# Altium footprint library PcbLib1.PcbLib: 31 footprints (part 1 of 2)
Each footprint in its own frame and in the unit in brackets; x right, y up, seen from the top. Pads: shape width x height; smd on the part's side, far side on the other; paste and mask are expansions set on the pad; w line width, h text height; cw(c..) or ccw(c..) is an arc to the next point about the centre after c.
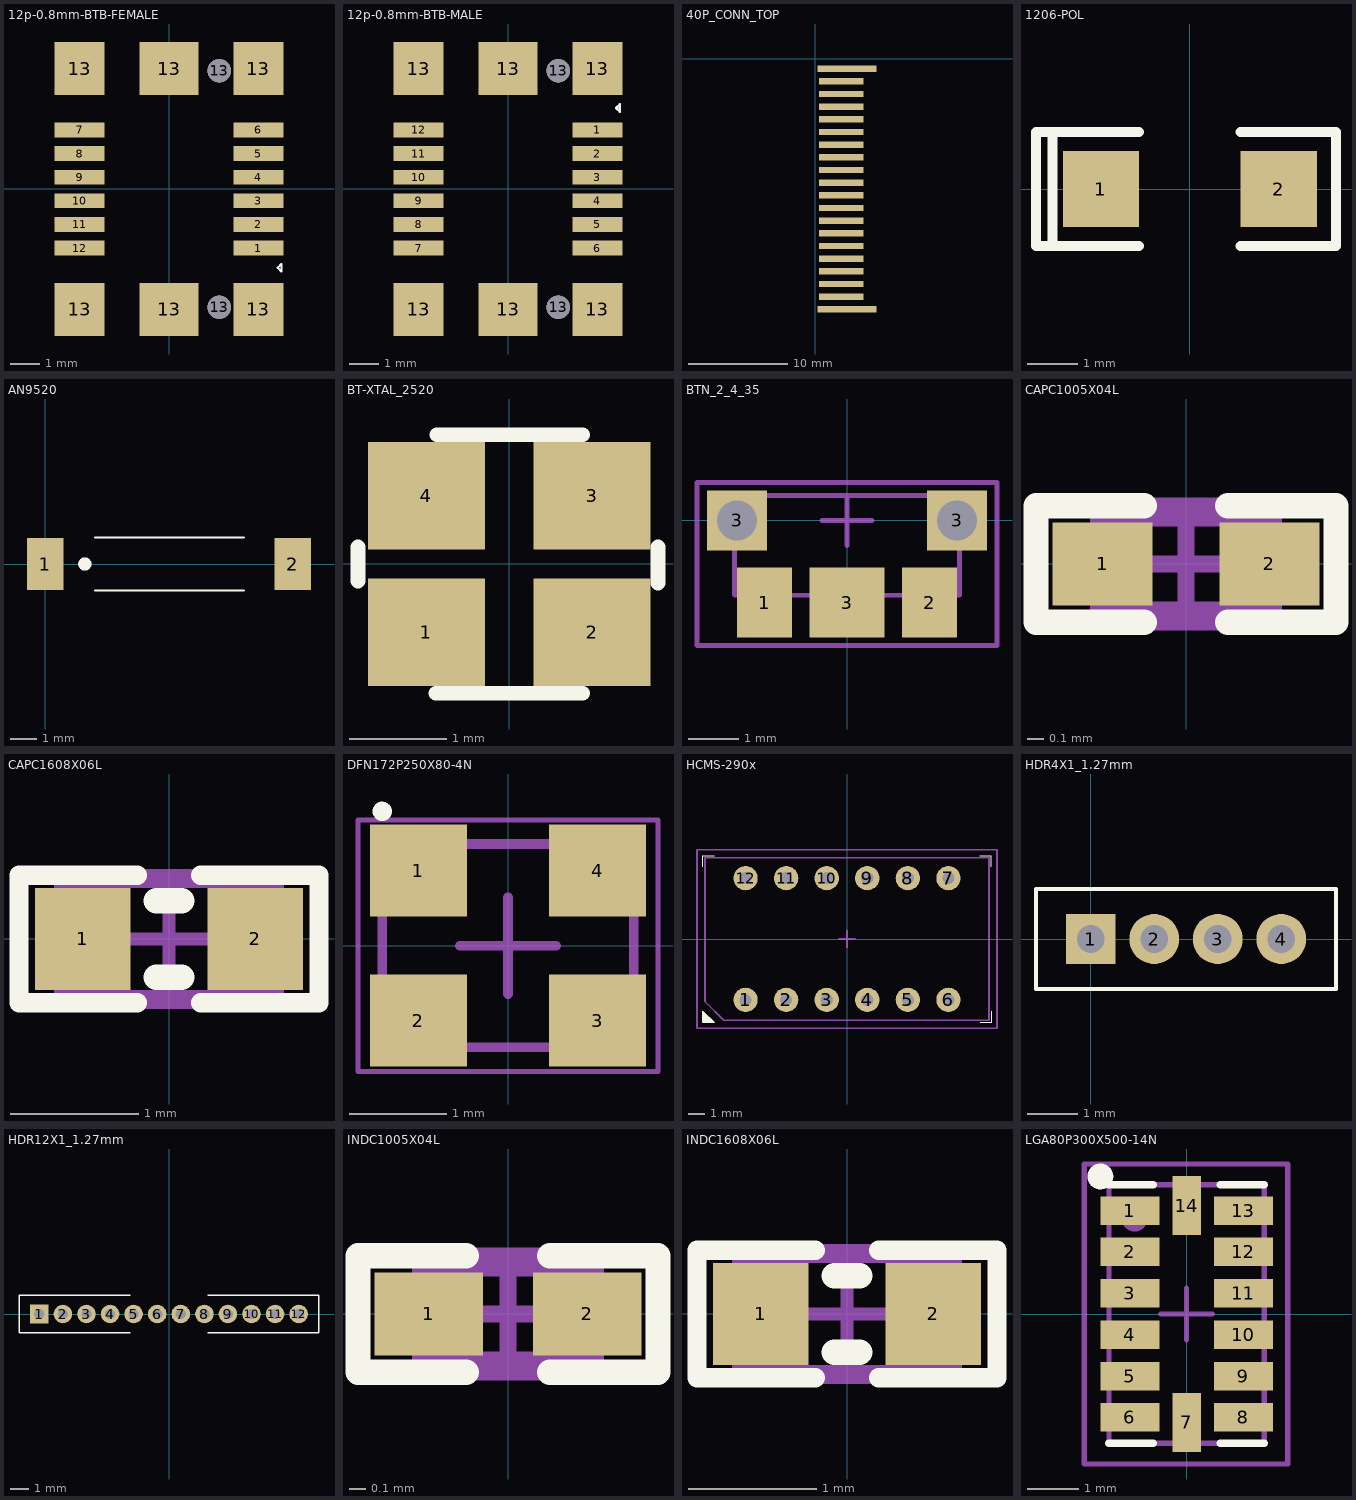
[diagram p0: the footprints below, top view; thin cyan lines are the x and y axes]

## 12p-0.8mm-BTB-FEMALE [mm]
height 2.7
pads (20):
  rect 1.7x0.5 smd: 1(3.025,-2) 2(3.025,-1.2) 3(3.025,-0.4) 4(3.025,0.4) 5(3.025,1.2) 6(3.025,2) 7(-3.025,2) 8(-3.025,1.2) 9(-3.025,0.4) 10(-3.025,-0.4) 11(-3.025,-1.2) 12(-3.025,-2)
  rect 1.7x1.8 smd: 13(-3.025,-4.075) 13(-3.025,4.075) 13(3.025,-4.075) 13(3.025,4.075)
  rect 2x1.8 smd: 13(0,-4.075) 13(0,4.075)
  round 0.8 hole 0.8 unplated paste+0 mask+0: 13(1.7,-4) 13(1.7,4)
Top Overlay:
  lines w0.076: 3.683,-2.667 3.81,-2.794 3.81,-2.54 3.683,-2.667

## 12p-0.8mm-BTB-MALE [mm]
height 2.7
pads (20):
  rect 1.7x0.5 smd: 1(3.025,2) 2(3.025,1.2) 3(3.025,0.4) 4(3.025,-0.4) 5(3.025,-1.2) 6(3.025,-2) 7(-3.025,-2) 8(-3.025,-1.2) 9(-3.025,-0.4) 10(-3.025,0.4) 11(-3.025,1.2) 12(-3.025,2)
  rect 1.7x1.8 smd: 13(-3.025,-4.075) 13(-3.025,4.075) 13(3.025,-4.075) 13(3.025,4.075)
  rect 2x1.8 smd: 13(0,-4.075) 13(0,4.075)
  round 0.8 hole 0.8 unplated paste+0 mask+0: 13(1.7,-4) 13(1.7,4)
Top Overlay:
  lines w0.076: 3.658,2.743 3.785,2.87 3.785,2.616 3.658,2.743

## 40P_CONN_TOP [mm]
pads (20):
  rect 6x0.63 smd paste+0.051: 1(3.2,-1) 20(3.2,-25.3)
  rect 4.5x0.63 smd paste+0.051: 2(2.602,-2.279) 3(2.602,-3.558) 4(2.602,-4.837) 5(2.602,-6.116) 6(2.602,-7.395) 7(2.602,-8.674) 8(2.602,-9.953) 9(2.602,-11.232) 10(2.602,-12.511) 11(2.602,-13.789) 12(2.602,-15.068) 13(2.602,-16.347) 14(2.602,-17.626) 15(2.602,-18.905) 16(2.602,-20.184) 17(2.602,-21.463) 18(2.602,-22.742) 19(2.602,-24.021)

## 1206-POL [mil] "贴片元件"
height 59.06
pads (2):
  rect 60x60 smd: 1(-70,0) 2(70,0)
Top Overlay:
  lines w7.87: -108.11,-45 -108.11,45 ; -40,-45 -121.06,-45 -121.06,45 -40,45 ; 40,-45 115,-45 115,45 40,45
3D body: height 39.37, standoff 0, extent -75,-35 -55,35
3D body: height 39.37, standoff 0, extent 55,-35 75,35
3D body: height 39.37, standoff 0, extent -55,-35 55,35

## AN9520 [mm]
pads (2):
  rect 1.4x2 smd: 1(0,0) 2(9.5,0)
Top Overlay:
  circle w0.254: c1.524,0 r0.127
  lines w0.076: 1.905,-1.016 7.62,-1.016 ; 1.905,1.016 7.62,1.016
3D body: height 1, standoff 0, extent 0,-1.016 9.525,1.016

## BT-XTAL_2520 [mm]
pads (4):
  rect 1.2x1.1 smd: 1(-0.85,-0.7) 2(0.85,-0.7) 3(0.85,0.7) 4(-0.85,0.7)
Top Overlay:
  lines w0.152: -1.55,-0.175 -1.55,0.175 ; -0.75,-1.325 0.75,-1.325 ; -0.74,1.325 0.75,1.325 ; 1.525,-0.195 1.525,0.175
3D body: height 0.56, standoff 0.15, extent -1.05,-0.8 1.05,0.8
3D body "User Library-GeyerElectronics_KX6.step": height 0.56, standoff 0, extent -1.25,-1 1.27,1

## BTN_2_4_35 [mm] "TS-018A 2*4*3.5 Key"
pads (5):
  rect 1.1x1.4 smd: 1(-1.65,-1.65) 2(1.65,-1.65)
  rect 1.2x1.2 hole 0.8: 3(-2.2,0) 3(2.2,0)
  rect 1.5x1.4 smd: 3(0,-1.65)
Mechanical 13:
  lines w0.1: -2.25,-1.5 -2.25,0.5 2.225,0.5 2.25,0.475 2.25,-1.5 -2.25,-1.5
Mechanical 15:
  lines w0.1: -0.5,0 0.5,0 ; 0,-0.5 0,0.5 ; -3,-2.5 -3,0.75 3,0.75 3,-2.5 -3,-2.5
3D body: height 1.8, standoff 0, extent -2.25,-1.5 2.25,0.5
3D body: height 1.4, standoff 0.4, extent -1.25,0.5 1.25,1.55

## CAPC1005X04L [mm]
pads (2):
  rect 0.6x0.5 smd: 1(-0.5,0) 2(0.5,0)
Top Overlay:
  lines w0.152: -0.25,-0.35 -0.9,-0.35 -0.9,0.35 -0.25,0.35 ; 0.25,-0.35 0.9,-0.35 0.9,0.35 0.25,0.35
Mechanical 13:
  lines w0.1: -0.525,-0.275 -0.525,0.275 0.525,0.275 0.525,-0.275 -0.525,-0.275
Mechanical 15:
  lines w0.1: -0.275,0 0.275,0 ; 0,-0.275 0,0.275 ; -0.9,-0.35 0.9,-0.35 0.9,0.35 -0.9,0.35 -0.9,-0.35
3D body "User Library-0402(1005M) Cap.step": height 0.5, standoff -0.01, extent -0.508,-0.254 0.508,0.254

## CAPC1608X06L [mm]
pads (2):
  rect 0.75x0.8 smd: 1(-0.675,0) 2(0.675,0)
Top Overlay:
  lines w0.152: -0.25,-0.5 -1.175,-0.5 -1.175,0.5 -0.25,0.5 ; 0.25,-0.5 1.175,-0.5 1.175,0.5 0.25,0.5
  lines w0.2: -0.1,-0.3 0.1,-0.3 ; -0.1,0.3 0.1,0.3
Mechanical 13:
  lines w0.1: -0.85,-0.45 -0.85,0.45 0.85,0.45 0.85,-0.45 -0.85,-0.45
Mechanical 15:
  lines w0.1: -0.45,0 0.45,0 ; 0,-0.45 0,0.45 ; -1.175,-0.5 1.175,-0.5 1.175,0.5 -1.175,0.5 -1.175,-0.5
3D body "User Library-Chip Capacitor 0603.step": height 0.8, standoff 0, extent -0.8,-0.43 0.8,0.43

## DFN172P250X80-4N [mm] "DFN, 4-Leads, Body 2.00x2.50mm, Pitch 1.72mm, IPC Medium Density"
height 0.8
pads (4):
  rect 1x0.95 smd: 1(-0.925,0.775) 2(-0.925,-0.775) 3(0.925,-0.775) 4(0.925,0.775)
Top Overlay:
  circle w0.1: c-1.3,1.388 r0.05
Mechanical 13:
  lines w0.1: -1.3,-1.05 -1.3,1.05 1.3,1.05 1.3,-1.05 -1.3,-1.05
Mechanical 15:
  lines w0.05: -1.55,-1.3 -1.55,1.3 1.55,1.3 1.55,-1.3 -1.55,-1.3
  lines w0.1: -0.5,0 0.5,0 ; 0,-0.5 0,0.5
3D body: height 0.8, standoff 0, extent -1.3,-1.05 1.3,1.05

## HCMS-290x [mil]
pads (12):
  round 60 hole 30: 1(-250,-150) 2(-150,-150) 3(-50,-150) 4(50,-150) 5(150,-150) 6(250,-150) 7(250,150) 8(150,150) 9(50,150) 10(-50,150) 11(-150,150) 12(-250,150)
Top Overlay:
  region: -355.31,-177.68 -355.31,-205.71 -327.28,-205.71
  lines w3: -355.31,177.68 -355.31,205.71 -327.29,205.71 ; 327.29,205.71 355.31,205.71 355.31,177.68 ; 328.27,-205.71 356.3,-205.71 356.3,-177.68 ; -355.31,-205.71 -355.31,-177.68 -327.28,-205.71 -355.31,-205.71
Mechanical 13:
  lines w3.94: -350,-153.94 -303.94,-200 350,-200 350,200 -350,200 -350,-153.94
Mechanical 15:
  lines w3.94: -19.69,0 19.68,0 ; 0,-19.68 0,19.69 ; -369.69,-219.69 369.69,-219.69 369.69,219.69 -369.69,219.69 -369.69,-219.69
3D body: height 200, standoff 0, extent -350.39,-200.79 350.39,200.79

## HDR4X1_1.27mm [mm]
pads (4):
  rect 1x1 hole 0.55: 1(0,0)
  round 1 hole 0.55: 2(1.27,0) 3(2.54,0) 4(3.81,0)
Top Overlay:
  lines w0.076: -1.095,-1 -1.095,1 4.905,1 4.905,-1 -1.095,-1

## HDR12X1_1.27mm [mm]
pads (12):
  rect 1x1 hole 0.55: 1(-6.985,0)
  round 1 hole 0.55: 2(-5.715,0) 3(-4.445,0) 4(-3.175,0) 5(-1.905,0) 6(-0.635,0) 7(0.635,0) 8(1.905,0) 9(3.175,0) 10(4.445,0) 11(5.715,0) 12(6.985,0)
Top Overlay:
  lines w0.076: -2.08,-1 -8.08,-1 -8.08,1 -2.08,1 ; 2.08,-1 8.08,-1 8.08,1 2.08,1

## INDC1005X04L [mm]
pads (2):
  rect 0.65x0.5 smd: 1(-0.475,0) 2(0.475,0)
Top Overlay:
  lines w0.152: -0.25,-0.35 -0.9,-0.35 -0.9,0.35 -0.25,0.35 ; 0.25,-0.35 0.9,-0.35 0.9,0.35 0.25,0.35
Mechanical 13:
  lines w0.1: -0.525,-0.275 -0.525,0.275 0.525,0.275 0.525,-0.275 -0.525,-0.275
Mechanical 15:
  lines w0.1: -0.275,0 0.275,0 ; 0,-0.275 0,0.275 ; -0.9,-0.35 -0.9,0.35 0.9,0.35 0.9,-0.35 -0.9,-0.35
3D body "User Library-Chip Inductor 0402.step": height 0.5, standoff 0, extent -0.5,-0.3 0.5,0.3

## INDC1608X06L [mm]
pads (2):
  rect 0.75x0.8 smd: 1(-0.675,0) 2(0.675,0)
Top Overlay:
  lines w0.152: -0.25,-0.5 -1.175,-0.5 -1.175,0.5 -0.25,0.5 ; 0.25,-0.5 1.175,-0.5 1.175,0.5 0.25,0.5
  lines w0.2: -0.1,-0.3 0.1,-0.3 ; -0.1,0.3 0.1,0.3
Mechanical 13:
  lines w0.1: -0.85,-0.45 0.85,-0.45 0.85,0.45 -0.85,0.45 -0.85,-0.45
Mechanical 15:
  lines w0.1: -0.45,0 0.45,0 ; 0,-0.45 0,0.45 ; -1.175,-0.5 -1.175,0.5 1.175,0.5 1.175,-0.5 -1.175,-0.5
3D body "User Library-Chip Inductor.step": height 0.8, standoff 0, extent -0.8,-0.475 0.8,0.475

## LGA80P300X500-14N [mm] "LGA, 14-Leads, Body 5,0x3,0mm (max), Pitch 1,01mm, Pitch1 0,80mm, IPC Medium Density"
height 1
pads (14):
  rect 1.145x0.55 smd: 1(-1.098,2) 2(-1.098,1.2) 3(-1.098,0.4) 4(-1.098,-0.4) 5(-1.098,-1.2) 6(-1.098,-2) 8(1.098,-2) 9(1.098,-1.2) 10(1.098,-0.4) 11(1.098,0.4) 12(1.098,1.2) 13(1.098,2)
  rect 0.55x1.145 smd: 7(0,-2.097) 14(0,2.097)
Top Overlay:
  circle w0.25: c-1.668,2.659 r0.125
  lines w0.15: -1.5,-2.5 -0.65,-2.5 ; -1.5,2.5 -0.65,2.5 ; 0.65,-2.5 1.5,-2.5 ; 0.65,2.5 1.5,2.5
Mechanical 1:
  lines w0.1: -0.5,0 0.5,0 ; 0,-0.5 0,0.5 ; -1.981,-2.9 1.956,-2.9 1.956,2.9 -1.981,2.9 -1.981,-2.9
Mechanical 2:
  circle w0.25: c-1.008,1.846 r0.125
  lines w0.1: -1.5,-2.5 1.5,-2.5 1.5,2.5 -1.5,2.5 -1.5,-2.5
3D body "SW3dPS-LGA-14.STEP": height 1.03, standoff -0.4, extent -1.5,-2.489 1.5,2.511